# Altium footprint library Con IDC.PcbLib: 111 footprints (part 8 of 8)
Each footprint in its own frame and in the unit in brackets; x right, y up, seen from the top. Pads: shape width x height; smd on the part's side, far side on the other; paste and mask are expansions set on the pad; w line width, h text height; cw(c..) or ccw(c..) is an arc to the next point about the centre after c.
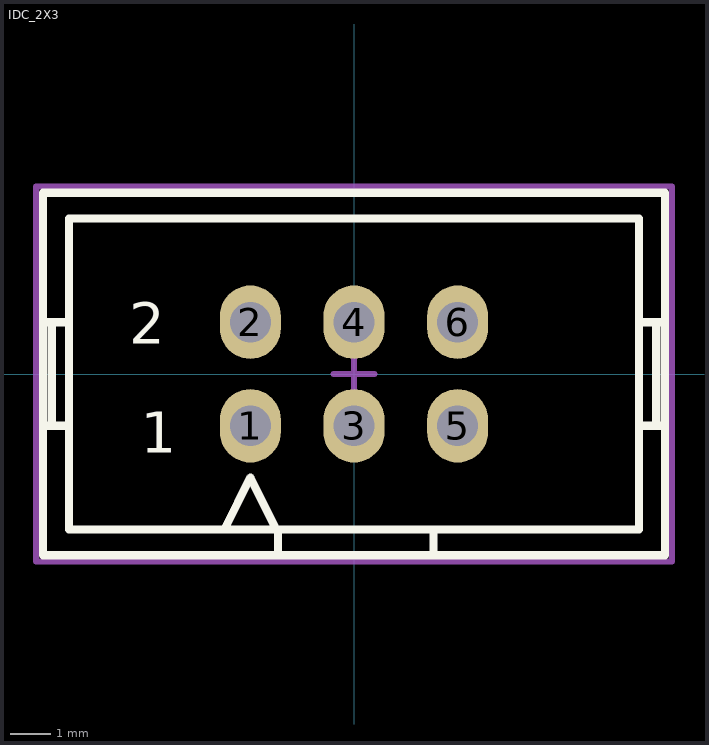
[diagram p7: the footprint, top view; thin cyan lines are the x and y axes]

## IDC_2X3 [mm] "IDC2X3 FOR PROGPIN AND JUMPER BOX AND ETC. DESIGNER ABBAS BASEREH"
height 7.62
pads (6):
  oval 1.5x1.8 hole 1 mask+0.1: 1(-2.54,-1.27) 2(-2.54,1.27) 3(0,-1.27) 4(0,1.27) 5(2.54,-1.27) 6(2.54,1.27)
Top Overlay:
  lines w0.2: -7.62,-1.27 -6.985,-1.27 ; -7.62,1.27 -6.985,1.27 ; -7.408,-1.27 -7.408,1.27 ; -3.175,-3.81 -2.54,-2.54 -1.905,-3.81 ; -1.865,-4.445 -1.865,-3.81 ; 1.945,-4.445 1.945,-3.81 ; 6.985,-1.27 7.62,-1.27 ; 6.985,1.27 7.62,1.27 ; 7.408,-1.27 7.408,1.27 ; -7.62,-4.445 -7.62,4.445 7.62,4.445 7.62,-4.445 -7.62,-4.445 ; -6.985,-3.81 -6.985,3.81 6.985,3.81 6.985,-3.81 -6.985,-3.81
  text "1" at -5.232,-1.93 h1
  text "2" at -5.512,0.737 h1
Mechanical 15:
  lines w0.15: -0.5,0 0.5,0 ; 0,-0.5 0,0.5 ; -7.8,-4.6 -7.8,4.6 7.8,4.6 7.8,-4.6 -7.8,-4.6
3D body "User Library-IDC Socket Male 6pin Straight THT Goldplated 2_54mm.STEP": height 9.17, standoff -3.23, extent -7.61,-4.25 7.61,4.6